# EAGLE library part PCA9554 (library ct-bot)
I/O EXPANDER 8-bit I2C-bus and SMBus I/O port with interrupt
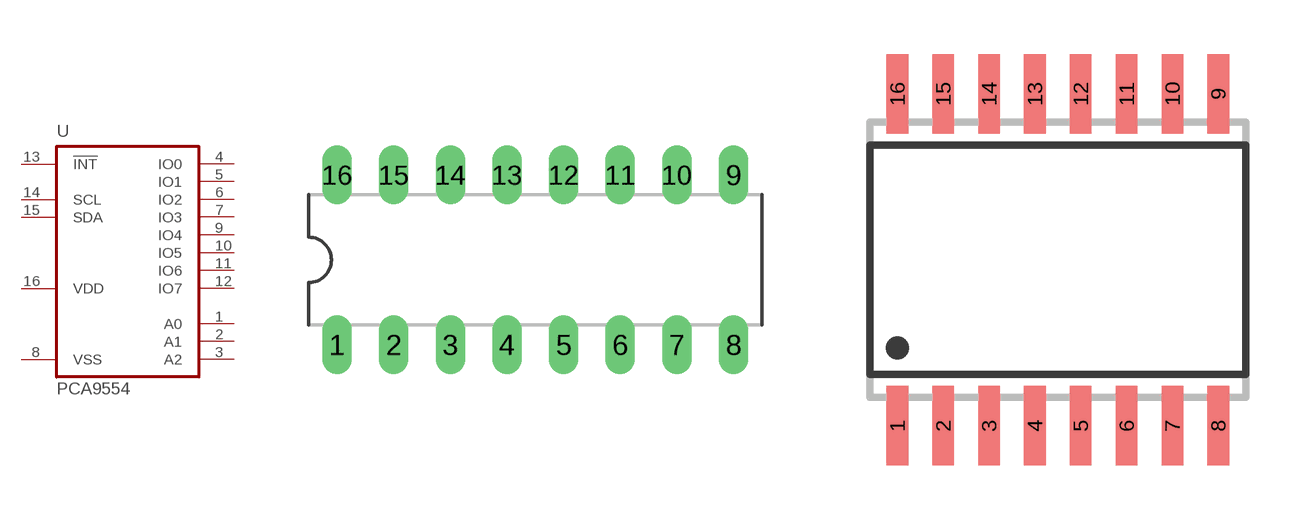
[diagram p18: symbol with the pads of DIL16; footprints DIL16, SO16W]

Designator prefix U

## PCA9554N  [DIL16]
1  A0  in
2  A1  in
3  A2  in
4  IO0
5  IO1
6  IO2
7  IO3
8  VSS  pwr
9  IO4
10  IO5
11  IO6
12  IO7
13  !INT  out
14  SCL  in
15  SDA
16  VDD  pwr

## PCA9554D  [SO16W]
Pads as for DIL16

## PCA9554DB  [SSOP16W]
Pads as for DIL16

## PCA9554  [SSOP20]
1  !INT  out
2  SCL  in
4  SDA
5  VDD  pwr
6  A0  in
7  A1  in
9  A2  in
10  IO0
11  IO1
12  IO2
14  IO3
15  VSS  pwr
16  IO4
17  IO5
19  IO6
20  IO7

## PCA9554DW  [TSSOP16]
Pads as for DIL16

## Footprint DIL16 (pad centres in mm)
Dual In Line Package
drill 0.813 long: 1 -8.89,-3.81; 2 -6.35,-3.81; 3 -3.81,-3.81; 4 -1.27,-3.81; 5 1.27,-3.81; 6 3.81,-3.81; 7 6.35,-3.81; 8 8.89,-3.81; 9 8.89,3.81; 10 6.35,3.81; 11 3.81,3.81; 12 1.27,3.81; 13 -1.27,3.81; 14 -3.81,3.81; 15 -6.35,3.81; 16 -8.89,3.81

## Footprint SO16W (pad centres in mm)
SMALL OUTLINE INTEGRATED CIRCUIT wide body 7.5 mm/JEDEC MS-013AA
smd 0.6 x 2.2: 1 -4.445,-4.6; 2 -3.175,-4.6; 3 -1.905,-4.6; 4 -0.635,-4.6; 5 0.635,-4.6; 6 1.905,-4.6; 7 3.175,-4.6; 8 4.445,-4.6; 9 4.445,4.6; 10 3.175,4.6; 11 1.905,4.6; 12 0.635,4.6; 13 -0.635,4.6; 14 -1.905,4.6; 15 -3.175,4.6; 16 -4.445,4.6

## Footprint SSOP16W (pad centres in mm)
Small Shrink Outline Package JDEC MO-150, 5.3 mm body
smd 0.4 x 1.2: 1 -2.275,-3.575; 2 -1.625,-3.575; 3 -0.975,-3.575; 4 -0.325,-3.575; 5 0.325,-3.575; 6 0.975,-3.575; 7 1.625,-3.575; 8 2.275,-3.575; 9 2.275,3.575; 10 1.625,3.575; 11 0.975,3.575; 12 0.325,3.575; 13 -0.325,3.575; 14 -0.975,3.575; 15 -1.625,3.575; 16 -2.275,3.575

## Footprint SSOP20 (pad centres in mm)
Small Shrink Outline Package JDEC MO-152, 4.4 mm body
smd 0.4 x 1.2: 1 -2.925,-3.05; 2 -2.275,-3.05; 3 -1.625,-3.05; 4 -0.975,-3.05; 5 -0.325,-3.05; 6 0.325,-3.05; 7 0.975,-3.05; 8 1.625,-3.05; 9 2.275,-3.05; 10 2.925,-3.05; 11 2.925,3.05; 12 2.275,3.05; 13 1.625,3.05; 14 0.975,3.05; 15 0.325,3.05; 16 -0.325,3.05; 17 -0.975,3.05; 18 -1.625,3.05; 19 -2.275,3.05; 20 -2.925,3.05

## Footprint TSSOP16 (pad centres in mm)
Thin Shrink Small Outline Plastic 16
smd 0.31 x 1.1: 1 -2.275,-3.08; 2 -1.625,-3.08; 3 -0.975,-3.08; 4 -0.325,-3.08; 5 0.325,-3.08; 6 0.975,-3.08; 7 1.625,-3.08; 8 2.275,-3.08; 9 2.275,3.08; 10 1.625,3.08; 11 0.975,3.08; 12 0.325,3.08; 13 -0.325,3.08; 14 -0.975,3.08; 15 -1.625,3.08; 16 -2.275,3.08